# EAGLE library part LP38693 (library IC)
500mA Low Dropout CMOS Linear Regulator
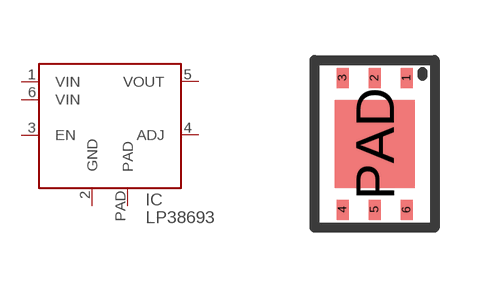
[diagram p178: symbol with the pads of LLP-6; footprint LLP-6]

Designator prefix IC

## LP38693SD-ADJ  [LLP-6]
1  VIN
2  GND
3  EN
4  ADJ
5  VOUT
6  VIN
PAD  PAD

## Footprint LLP-6 (pad centres in mm)
LLP-6 package
smd 0.3 x 0.5: 1 0.8,1.65; 2 0,1.65; 3 -0.8,1.65; 4 -0.8,-1.65; 5 0,-1.65; 6 0.8,-1.65
smd 2 x 2.2: PAD 0,0